# EAGLE library part 1726750614 (library RescueRunner)
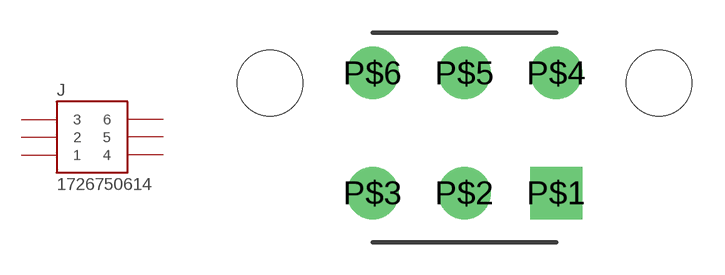
[diagram p5: symbol with the pads of 1726750614; footprint 1726750614]

Designator prefix J

## 1726750614  [1726750614]
P$1  1  pas
P$2  2  pas
P$3  3  pas
P$4  4  pas
P$5  5  pas
P$6  6  pas

## Footprint 1726750614 (pad centres in mm)
drill 1.4 pad 2.4 square: P$1 4.2,0
drill 1.4 pad 2.4: P$2 0,0; P$3 -4.2,0; P$4 4.2,5.5; P$5 0,5.5; P$6 -4.2,5.5
hole 3 at -8.9,5.04
hole 3 at 8.9,5.04